# Altium schematic symbol library CAP 33n.SchLib: 1 symbol
Pins are listed as number, name and electrical type; pins without a type are passive.

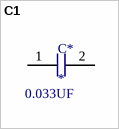
[diagram p0: symbol C1]

## C1
designator C*  Capacitance: 0.033UF
0.033µF Film Capacitor 305V 630V Polypropylene (PP) Radial; Manufacturer: EPCOS (TDK); Manufacturer PN: Manufacturer Part Number; ComponentLink1Description: Datasheet; ComponentLink1URL: https://www.tdk-electronics.tdk.com/inf/20/20/db/fc_2009/X2_B32921_928.pdf; Digi-Key PN: 495-4946-2-ND
footprint PCBComponent_1
pins: 1, 2